# EAGLE library part NINA-B302 (library NINA-B302)
u-blox NINA-B302 Bluetooth 5 LE, 802.15.4 module Check availability <https://pricing.snapeda.com/parts/NINA-B302/u-blox/view-part?ref=eda>
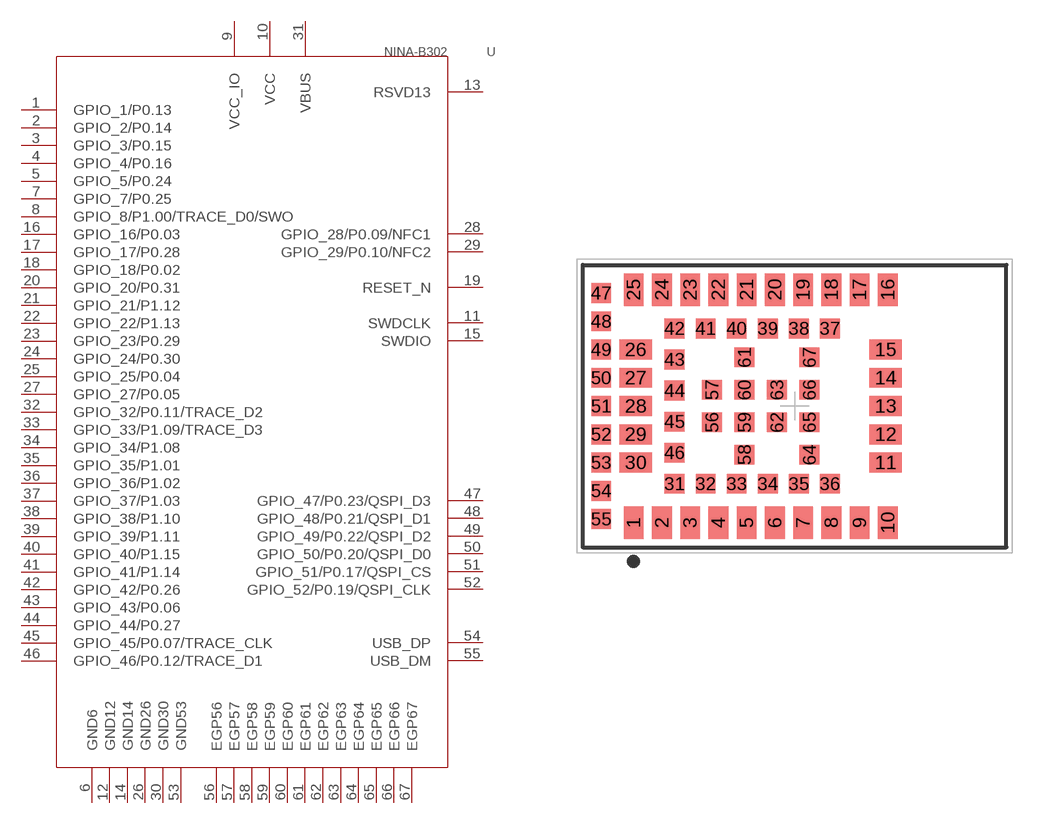
[diagram p0: symbol with the pads of NINA_LGA67R_1500X1000X338_PIFA; footprint NINA_LGA67R_1500X1000X338_PIFA]

Designator prefix U

## NINA-B302NINA-B302_NINA_LGA67R_1500X1000X338_PIFA (Availability: In Stock; Description: Bluetooth Bluetooth v5.0 Transceiver Module 2.4GHz Integrated, Chip Surface Mount; MF: u-blox; MP: NINA-B302; Package: SMD-55 U-Blox; Price: None; Purchase-URL: https://pricing.snapeda.com/search/part/NINA-B302/?ref=eda)  [NINA_LGA67R_1500X1000X338_PIFA]
1  GPIO_1/P0.13
2  GPIO_2/P0.14
3  GPIO_3/P0.15
4  GPIO_4/P0.16
5  GPIO_5/P0.24
6  GND6  pwr
7  GPIO_7/P0.25
8  GPIO_8/P1.00/TRACE_D0/SWO
9  VCC_IO  pwr
10  VCC  pwr
11  SWDCLK  in
12  GND12  pwr
13  RSVD13  pas
14  GND14  pwr
15  SWDIO
16  GPIO_16/P0.03
17  GPIO_17/P0.28
18  GPIO_18/P0.02
19  RESET_N  in
20  GPIO_20/P0.31
21  GPIO_21/P1.12
22  GPIO_22/P1.13
23  GPIO_23/P0.29
24  GPIO_24/P0.30
25  GPIO_25/P0.04
26  GND26  pwr
27  GPIO_27/P0.05
28  GPIO_28/P0.09/NFC1
29  GPIO_29/P0.10/NFC2
30  GND30  pwr
31  VBUS  pwr
32  GPIO_32/P0.11/TRACE_D2
33  GPIO_33/P1.09/TRACE_D3
34  GPIO_34/P1.08
35  GPIO_35/P1.01
36  GPIO_36/P1.02
37  GPIO_37/P1.03
38  GPIO_38/P1.10
39  GPIO_39/P1.11
40  GPIO_40/P1.15
41  GPIO_41/P1.14
42  GPIO_42/P0.26
43  GPIO_43/P0.06
44  GPIO_44/P0.27
45  GPIO_45/P0.07/TRACE_CLK
46  GPIO_46/P0.12/TRACE_D1
47  GPIO_47/P0.23/QSPI_D3
48  GPIO_48/P0.21/QSPI_D1
49  GPIO_49/P0.22/QSPI_D2
50  GPIO_50/P0.20/QSPI_D0
51  GPIO_51/P0.17/QSPI_CS
52  GPIO_52/P0.19/QSPI_CLK
53  GND53  pwr
54  USB_DP
55  USB_DM
56  EGP56  pwr
57  EGP57  pwr
58  EGP58  pwr
59  EGP59  pwr
60  EGP60  pwr
61  EGP61  pwr
62  EGP62  pwr
63  EGP63  pwr
64  EGP64  pwr
65  EGP65  pwr
66  EGP66  pwr
67  EGP67  pwr

## Footprint NINA_LGA67R_1500X1000X338_PIFA (pad centres in mm)
smd 0.7 x 1.15: 1 -5.7,-4.125; 2 -4.7,-4.125; 3 -3.7,-4.125; 4 -2.7,-4.125; 5 -1.7,-4.125; 6 -0.7,-4.125; 7 0.3,-4.125; 8 1.3,-4.125; 9 2.3,-4.125; 10 3.3,-4.125; 16 3.3,4.125; 17 2.3,4.125; 18 1.3,4.125; 19 0.3,4.125; 20 -0.7,4.125; 21 -1.7,4.125; 22 -2.7,4.125; 23 -3.7,4.125; 24 -4.7,4.125; 25 -5.7,4.125
smd 1.15 x 0.7: 11 3.225,-2; 12 3.225,-1; 13 3.225,0; 14 3.225,1; 15 3.225,2; 26 -5.625,2; 27 -5.625,1; 28 -5.625,0; 29 -5.625,-1; 30 -5.625,-2
smd 0.7 x 0.7: 31 -4.25,-2.75; 32 -3.15,-2.75; 33 -2.05,-2.75; 34 -0.95,-2.75; 35 0.15,-2.75; 36 1.25,-2.75; 37 1.25,2.75; 38 0.15,2.75; 39 -0.95,2.75; 40 -2.05,2.75; 41 -3.15,2.75; 42 -4.25,2.75; 43 -4.25,1.65; 44 -4.25,0.55; 45 -4.25,-0.55; 46 -4.25,-1.65; 47 -6.85,4; 48 -6.85,3; 49 -6.85,2; 50 -6.85,1; 51 -6.85,0; 52 -6.85,-1; 53 -6.85,-2; 54 -6.85,-3; 55 -6.85,-4; 56 -2.925,-0.575; 57 -2.925,0.575; 58 -1.775,-1.725; 59 -1.775,-0.575; 60 -1.775,0.575; 61 -1.775,1.725; 62 -0.625,-0.575; 63 -0.625,0.575; 64 0.525,-1.725; 65 0.525,-0.575; 66 0.525,0.575; 67 0.525,1.725